# EAGLE library part MSP430G2955 (library magzor)
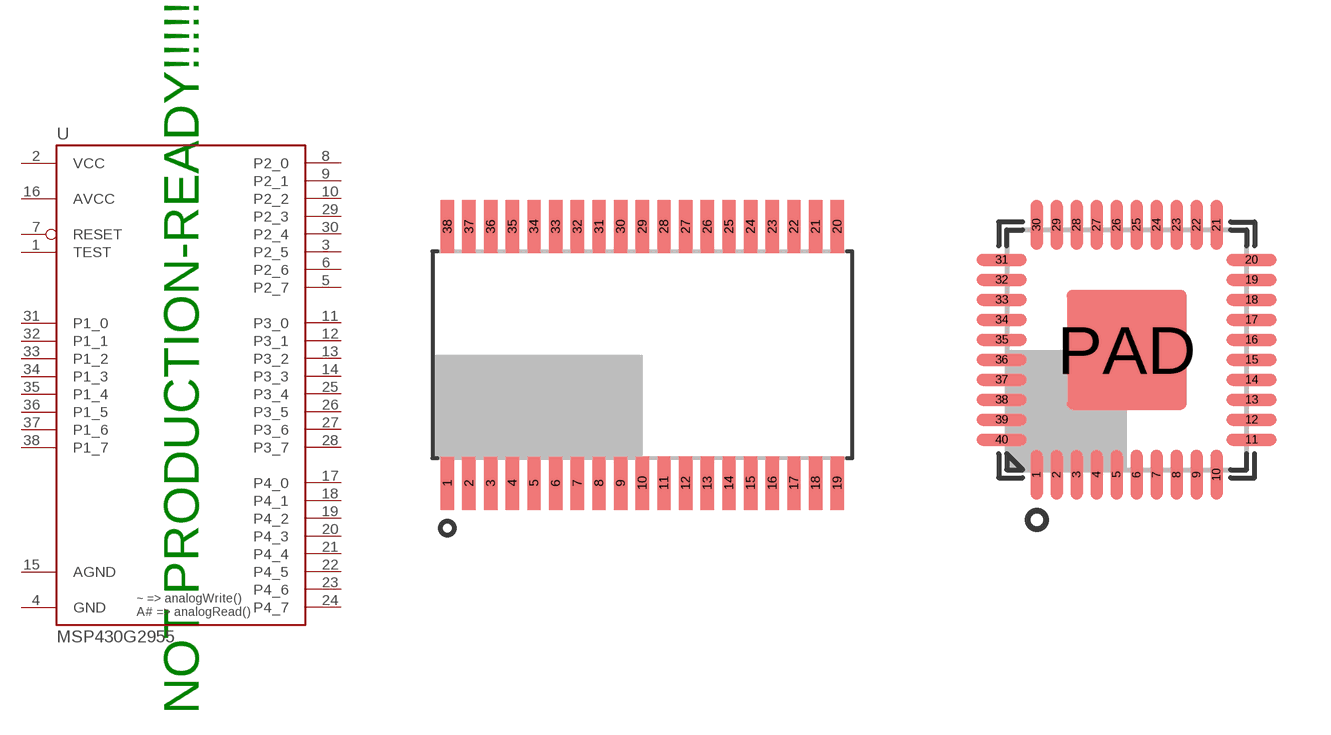
[diagram p37: symbol with the pads of TSSOP38; footprints TSSOP38, VQFN40]

Designator prefix U

## MSP430G2955DA  [TSSOP38]
1  TEST
2  VCC
3  P2_5
4  GND
5  P2_7
6  P2_6
7  RESET
8  P2_0
9  P2_1
10  P2_2
11  P3_0
12  P3_1
13  P3_2
14  P3_3
15  AGND
16  AVCC
17  P4_0
18  P4_1
19  P4_2
20  P4_3
21  P4_4
22  P4_5
23  P4_6
24  P4_7
25  P3_4
26  P3_5
27  P3_6
28  P3_7
29  P2_3
30  P2_4
31  P1_0
32  P1_1
33  P1_2
34  P1_3
35  P1_4
36  P1_5
37  P1_6
38  P1_7

## MSP430G2955RHA  [VQFN40]
1  GND
2  P2_7
3  P2_6
4  GND
5  RESET
6  P2_0
7  P2_1
8  P2_2
9  P3_0
10  P3_1
11  P3_2
12  P3_3
13  AGND
14  AVCC
15  P4_0
16  P4_1
17  P4_2
18  P4_3
19  P4_4
20  P4_5
21  P4_6
22  P4_7
23  P3_4
24  P3_5
25  P3_6
26  P3_7
27  P2_3
28  P2_4
29  P1_0
30  P1_1
31  P1_2
32  P1_3
33  P1_4
34  P1_5
35  P1_6
36  P1_7
37  TEST
38  VCC
39  VCC
40  P2_5
PAD  GND

## Footprint TSSOP38 (pad centres in mm)
smd 0.4 x 1.6: 1 -5.85,-3.85; 2 -5.2,-3.85; 3 -4.55,-3.85; 4 -3.9,-3.85; 5 -3.25,-3.85; 6 -2.6,-3.85; 7 -1.95,-3.85; 8 -1.3,-3.85; 9 -0.65,-3.85; 10 0,-3.85; 11 0.65,-3.85; 12 1.3,-3.85; 13 1.95,-3.85; 14 2.6,-3.85; 15 3.25,-3.85; 16 3.9,-3.85; 17 4.55,-3.85; 18 5.2,-3.85; 19 5.85,-3.85; 20 5.85,3.85; 21 5.2,3.85; 22 4.55,3.85; 23 3.9,3.85; 24 3.25,3.85; 25 2.6,3.85; 26 1.95,3.85; 27 1.3,3.85; 28 0.65,3.85; 29 0,3.85; 30 -0.65,3.85; 31 -1.3,3.85; 32 -1.95,3.85; 33 -2.6,3.85; 34 -3.25,3.85; 35 -3.9,3.85; 36 -4.55,3.85; 37 -5.2,3.85; 38 -5.85,3.85

## Footprint VQFN40 (pad centres in mm)
6mm × 6mm outline
smd 0.3 x 1.25: 1 -2.25,-3.125; 2 -1.75,-3.125; 3 -1.25,-3.125; 4 -0.75,-3.125; 5 -0.25,-3.125; 6 0.25,-3.125; 7 0.75,-3.125; 8 1.25,-3.125; 9 1.75,-3.125; 10 2.25,-3.125; 21 2.25,3.125; 22 1.75,3.125; 23 1.25,3.125; 24 0.75,3.125; 25 0.25,3.125; 26 -0.25,3.125; 27 -0.75,3.125; 28 -1.25,3.125; 29 -1.75,3.125; 30 -2.25,3.125
smd 1.25 x 0.3: 11 3.125,-2.25; 12 3.125,-1.75; 13 3.125,-1.25; 14 3.125,-0.75; 15 3.125,-0.25; 16 3.125,0.25; 17 3.125,0.75; 18 3.125,1.25; 19 3.125,1.75; 20 3.125,2.25; 31 -3.125,2.25; 32 -3.125,1.75; 33 -3.125,1.25; 34 -3.125,0.75; 35 -3.125,0.25; 36 -3.125,-0.25; 37 -3.125,-0.75; 38 -3.125,-1.25; 39 -3.125,-1.75; 40 -3.125,-2.25
smd 3 x 3: PAD 0,0